# Altium schematic symbol library 1-1546215-2.SchLib: 1 symbol
Pins are listed as number, name and electrical type; pins without a type are passive.

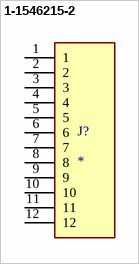
[diagram p0: symbol 1-1546215-2]

## 1-1546215-2
designator J?
MP: 1-1546215-2; MF: {'manufacturer': u'TE Connectivity'}; Value: *; Availability: Unavailable; Package: None; Price: None
footprint TE_1-1546215-2
pins: 1, 2, 3, 4, 5, 6, 7, 8, 9, 10, 11, 12